# EAGLE library part ON-AR0330CS1C12SPKA0 (library EagleLibrary)
3.4 Megapixel CMOS Image Sensor
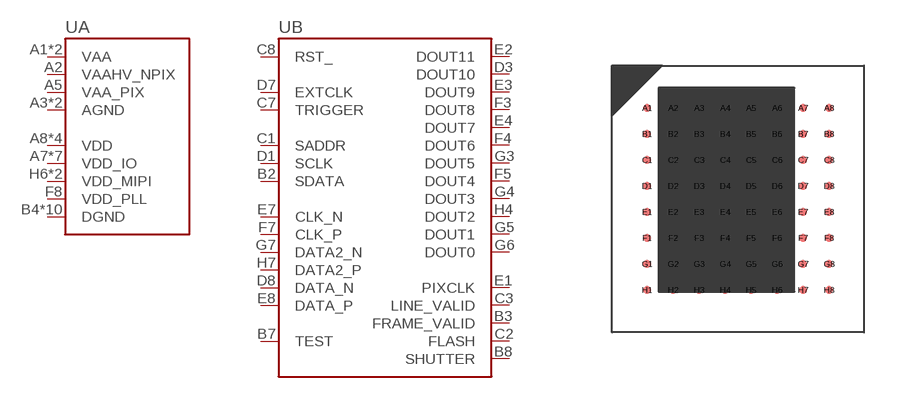
[diagram p17: symbol with the pads of ON-AR0330CS1C12SPKA0; footprint ON-AR0330CS1C12SPKA0]

Designator prefix U; gates A=ON-AR0330CS1C12SPKA0-A B=ON-AR0330CS1C12SPKA0-B

## ON-AR0330CS1C12SPKA0 (MFG: ON Semiconductor)  [ON-AR0330CS1C12SPKA0]
A1  A:VAA
A2  A:VAAHV_NPIX
A3  A:AGND
A5  A:VAA_PIX
A6  A:VAA
A7  A:VDD_IO
A8  A:VDD
B1  A:VDD
B2  B:SDATA
B3  B:FRAME_VALID
B4  A:DGND
B5  A:AGND
B6  A:DGND
B7  B:TEST
B8  B:SHUTTER
C1  B:SADDR
C2  B:FLASH
C3  B:LINE_VALID
C4  A:DGND
C5  A:DGND
C6  A:DGND
C7  B:TRIGGER
C8  B:RST_
D1  B:SCLK
D2  A:VDD_IO
D3  B:DOUT10
D4  A:DGND
D5  A:VDD_IO
D6  A:VDD_IO
D7  B:EXTCLK
D8  B:DATA_N
E1  B:PIXCLK
E2  B:DOUT11
E3  B:DOUT9
E4  B:DOUT7
E5  A:VDD_IO
E6  A:DGND
E7  B:CLK_N
E8  B:DATA_P
F3  B:DOUT8
F4  B:DOUT6
F5  B:DOUT4
F6  A:VDD_IO
F7  B:CLK_P
F8  A:VDD_PLL
G1  A:DGND
G2  A:VDD
G3  B:DOUT5
G4  B:DOUT3
G5  B:DOUT1
G6  B:DOUT0
G7  B:DATA2_N
G8  A:VDD
H2  A:DGND
H3  A:DGND
H4  B:DOUT2
H5  A:VDD_IO
H6  A:VDD_MIPI
H7  B:DATA2_P
H8  A:VDD_MIPI

## Footprint ON-AR0330CS1C12SPKA0 (pad centres in mm)
64-BGA, collapsing, 0.65 mm pitch, 6.65 X 6.28 X 1.00 mm body 64-pin collapsing BGA package with 0.65 mm col pitch and 0.65 mm row pitch with body size 6.65 X 6.28 X 1.00 mm
smd 0.2 x 0.2: A1 -1.985,2.045; A2 -1.335,2.045; A3 -0.685,2.045; A4 -0.035,2.045; A5 0.615,2.045; A6 1.265,2.045; A7 1.915,2.045; A8 2.565,2.045; B1 -1.985,1.395; B2 -1.335,1.395; B3 -0.685,1.395; B4 -0.035,1.395; B5 0.615,1.395; B6 1.265,1.395; B7 1.915,1.395; B8 2.565,1.395; C1 -1.985,0.745; C2 -1.335,0.745; C3 -0.685,0.745; C4 -0.035,0.745; C5 0.615,0.745; C6 1.265,0.745; C7 1.915,0.745; C8 2.565,0.745; D1 -1.985,0.095; D2 -1.335,0.095; D3 -0.685,0.095; D4 -0.035,0.095; D5 0.615,0.095; D6 1.265,0.095; D7 1.915,0.095; D8 2.565,0.095; E1 -1.985,-0.555; E2 -1.335,-0.555; E3 -0.685,-0.555; E4 -0.035,-0.555; E5 0.615,-0.555; E6 1.265,-0.555; E7 1.915,-0.555; E8 2.565,-0.555; F1 -1.985,-1.205; F2 -1.335,-1.205; F3 -0.685,-1.205; F4 -0.035,-1.205; F5 0.615,-1.205; F6 1.265,-1.205; F7 1.915,-1.205; F8 2.565,-1.205; G1 -1.985,-1.855; G2 -1.335,-1.855; G3 -0.685,-1.855; G4 -0.035,-1.855; G5 0.615,-1.855; G6 1.265,-1.855; G7 1.915,-1.855; G8 2.565,-1.855; H1 -1.985,-2.505; H2 -1.335,-2.505; H3 -0.685,-2.505; H4 -0.035,-2.505; H5 0.615,-2.505; H6 1.265,-2.505; H7 1.915,-2.505; H8 2.565,-2.505